# Altium footprint library CANBus.PcbLib: 8 footprints
Each footprint in its own frame and in the unit in brackets; x right, y up, seen from the top. Pads: shape width x height; smd on the part's side, far side on the other; paste and mask are expansions set on the pad; w line width, h text height; cw(c..) or ccw(c..) is an arc to the next point about the centre after c.
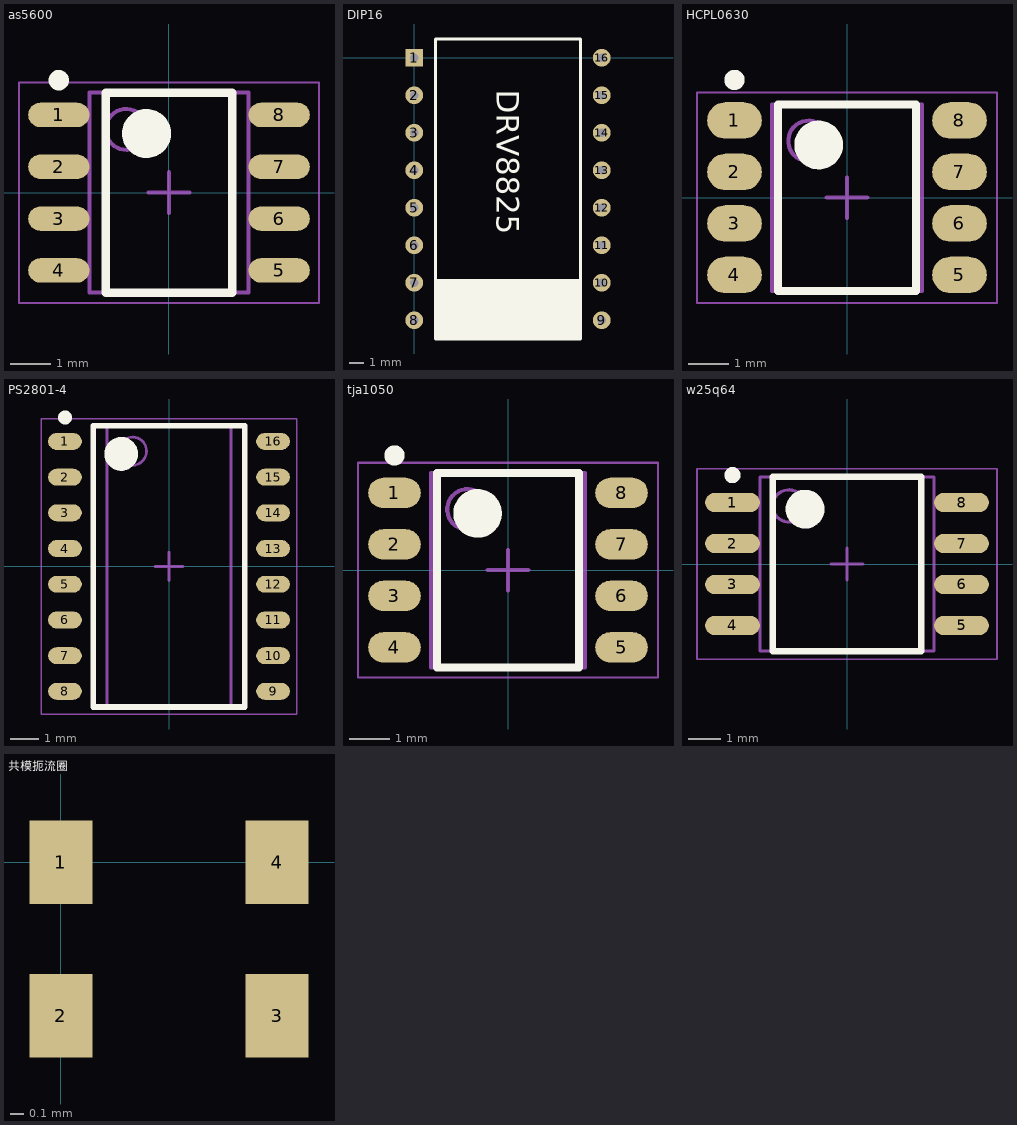
[diagram p0: the footprints below, top view; thin cyan lines are the x and y axes]

## as5600 [mm] "SOIC, 8-Leads, Body 4.90x3.90mm, Pitch 1.27mm, IPC Medium Density"
height 1.75
pads (8):
  oval 1.5x0.6 smd: 1(-2.7,1.905) 2(-2.7,0.635) 3(-2.7,-0.635) 4(-2.7,-1.905) 5(2.7,-1.905) 6(2.7,-0.635) 7(2.7,0.635) 8(2.7,1.905)
Top Overlay:
  circle w0.25: c-2.7,2.755 r0.125
  circle w0.6: c-0.55,1.45 r0.3
  lines w0.2: -1.55,-2.45 -1.55,2.45 1.55,2.45 1.55,-2.45 -1.55,-2.45
Mechanical 13:
  circle w0.1: c-1.05,1.55 r0.5
  lines w0.1: -1.95,-2.45 -1.95,2.45 1.95,2.45 1.95,-2.45 -1.95,-2.45
Mechanical 15:
  lines w0.05: -3.675,-2.7 -3.675,2.7 3.675,2.7 3.675,-2.7 -3.675,-2.7
  lines w0.1: -0.5,0 0.5,0 ; 0,-0.5 0,0.5
3D body: height 1.75, standoff 0.18, extent -1.95,-2.45 1.95,2.45

## DIP16 [mm]
pads (16):
  rect 1.2x1.2 hole 0.6: 1(0,0)
  round 1.2 hole 0.6: 2(0,-2.54) 3(0,-5.08) 4(0,-7.62) 5(0,-10.16) 6(0,-12.7) 7(0,-15.24) 8(0,-17.78) 9(12.7,-17.78) 10(12.7,-15.24) 11(12.7,-12.7) 12(12.7,-10.16) 13(12.7,-7.62) 14(12.7,-5.08) 15(12.7,-2.54) 16(12.7,0)
Top Overlay:
  rectangle: 1.435,-19.05 11.265,-14.986
  lines w0.2: 1.435,-19.05 1.435,1.27 11.265,1.27 11.265,-19.05 1.435,-19.05
  text "DRV8825" at 5.588,-2.159 h1.52

## HCPL0630 [mm] "SOP, 8-Leads, Body 4.88x3.91mm, Pitch 1.27mm, IPC Medium Density"
height 3.38
pads (8):
  oval 1.35x0.9 smd: 1(-2.775,1.905) 2(-2.775,0.635) 3(-2.775,-0.635) 4(-2.775,-1.905) 5(2.775,-1.905) 6(2.775,-0.635) 7(2.775,0.635) 8(2.775,1.905)
Top Overlay:
  circle w0.6: c-0.7,1.3 r0.3
  circle w0.25: c-2.775,2.905 r0.125
  lines w0.2: -1.7,-2.3 1.7,-2.3 1.7,2.3 -1.7,2.3 -1.7,-2.3
Mechanical 13:
  circle w0.1: c-0.95,1.4 r0.5
  lines w0.1: -1.85,-2.3 1.85,-2.3 1.85,2.3 -1.85,2.3 -1.85,-2.3
Mechanical 15:
  lines w0.05: -3.7,-2.6 3.7,-2.6 3.7,2.6 -3.7,2.6 -3.7,-2.6
  lines w0.1: -0.5,0 0.5,0 ; 0,-0.5 0,0.5
3D body: height 3.38, standoff 0.18, extent -1.85,-2.3 1.85,2.3

## PCBComponent_1 [mm]

## PS2801-4 [mm] "SOP, 16-Leads, Body 10.30x4.40mm, Pitch 1.27mm, IPC Medium Density"
height 2.3
pads (16):
  oval 1.2x0.6 smd: 1(-3.7,4.445) 2(-3.7,3.175) 3(-3.7,1.905) 4(-3.7,0.635) 5(-3.7,-0.635) 6(-3.7,-1.905) 7(-3.7,-3.175) 8(-3.7,-4.445) 9(3.7,-4.445) 10(3.7,-3.175) 11(3.7,-1.905) 12(3.7,-0.635) 13(3.7,0.635) 14(3.7,1.905) 15(3.7,3.175) 16(3.7,4.445)
Top Overlay:
  circle w0.25: c-3.7,5.295 r0.125
  circle w0.6: c-1.7,4 r0.3
  lines w0.2: -2.7,-5 -2.7,5 2.7,5 2.7,-5 -2.7,-5
Mechanical 13:
  circle w0.1: c-1.3,4.1 r0.5
  lines w0.1: -2.2,-5 -2.2,5 2.2,5 2.2,-5 -2.2,-5
Mechanical 15:
  lines w0.05: -4.55,-5.25 -4.55,5.25 4.55,5.25 4.55,-5.25 -4.55,-5.25
  lines w0.1: -0.5,0 0.5,0 ; 0,-0.5 0,0.5
3D body: height 2.3, standoff 0.18, extent -2.2,-5 2.2,5

## tja1050 [mm] "SOP, 8-Leads, Body 4.90x3.90mm, Pitch 1.27mm, IPC Medium Density"
height 1.75
pads (8):
  oval 1.3x0.75 smd: 1(-2.8,1.905) 2(-2.8,0.635) 3(-2.8,-0.635) 4(-2.8,-1.905) 5(2.8,-1.905) 6(2.8,-0.635) 7(2.8,0.635) 8(2.8,1.905)
Top Overlay:
  circle w0.25: c-2.8,2.83 r0.125
  circle w0.6: c-0.75,1.4 r0.3
  lines w0.2: -1.75,-2.4 -1.75,2.4 1.75,2.4 1.75,-2.4 -1.75,-2.4
Mechanical 13:
  circle w0.1: c-1,1.5 r0.5
  lines w0.1: -1.9,-2.4 -1.9,2.4 1.9,2.4 1.9,-2.4 -1.9,-2.4
Mechanical 15:
  lines w0.05: -3.7,-2.65 -3.7,2.65 3.7,2.65 3.7,-2.65 -3.7,-2.65
  lines w0.1: -0.5,0 0.5,0 ; 0,-0.5 0,0.5
3D body: height 1.75, standoff 0.18, extent -1.9,-2.4 1.9,2.4

## w25q64 [mm] "SOIC, 8-Leads, Body 5.28x5.28mm, Pitch 1.27mm, IPC Medium Density"
height 2.16
pads (8):
  oval 1.7x0.6 smd: 1(-3.55,1.905) 2(-3.55,0.635) 3(-3.55,-0.635) 4(-3.55,-1.905) 5(3.55,-1.905) 6(3.55,-0.635) 7(3.55,0.635) 8(3.55,1.905)
Top Overlay:
  circle w0.6: c-1.3,1.7 r0.3
  circle w0.25: c-3.55,2.755 r0.125
  lines w0.2: -2.3,-2.7 2.3,-2.7 2.3,2.7 -2.3,2.7 -2.3,-2.7
Mechanical 13:
  circle w0.1: c-1.8,1.8 r0.5
  lines w0.1: -2.7,-2.7 2.7,-2.7 2.7,2.7 -2.7,2.7 -2.7,-2.7
Mechanical 15:
  lines w0.05: -4.65,-2.95 4.65,-2.95 4.65,2.95 -4.65,2.95 -4.65,-2.95
  lines w0.1: -0.5,0 0.5,0 ; 0,-0.5 0,0.5
3D body: height 2.16, standoff 0.15, extent -2.7,-2.7 2.7,2.7

## 共模扼流圈 [mm]
height 0.82
pads (4):
  rect 0.45x0.6 smd: 1(0,0) 2(0,-1.1) 3(1.55,-1.1) 4(1.55,0)